# EAGLE library part ADS1299IPAG (library ADC)
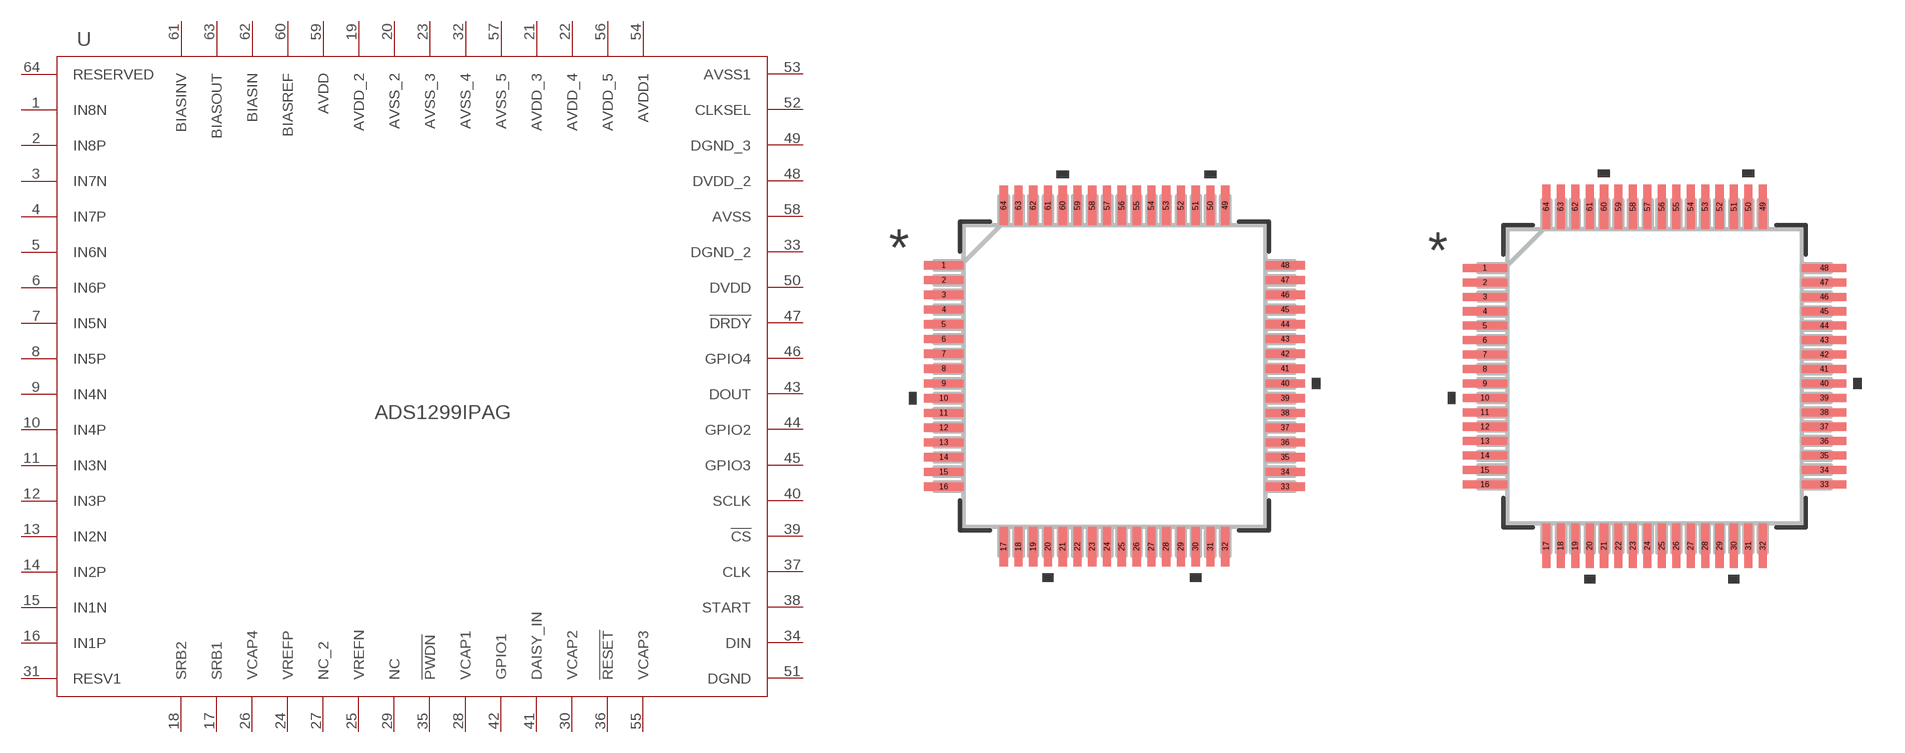
[diagram p0: symbol with the pads of PAG64_TEX; footprints PAG64_TEX, PAG64_TEX-M]

Designator prefix U

## ADS1299IPAG (COPYRIGHT: Copyright (C) 2021 Ultra Librarian. All rights reserved.; MANUFACTURER_PART_NUMBER: ADS1299IPAG; MFR_NAME: Texas Instruments)  [PAG64_TEX]
1  IN8N  in
2  IN8P  in
3  IN7N  in
4  IN7P  in
5  IN6N  in
6  IN6P  in
7  IN5N  in
8  IN5P  in
9  IN4N  in
10  IN4P  in
11  IN3N  in
12  IN3P  in
13  IN2N  in
14  IN2P  in
15  IN1N  in
16  IN1P  in
17  SRB1
18  SRB2
19  AVDD_2  pwr
20  AVSS_2  pwr
21  AVDD_3  pwr
22  AVDD_4  pwr
23  AVSS_3  pwr
24  VREFP
25  VREFN  in
26  VCAP4  out
27  NC_2  nc
28  VCAP1  pas
29  NC  nc
30  VCAP2  pas
31  RESV1  in
32  AVSS_4  pwr
33  DGND_2  pwr
34  DIN  in
35  !PWDN  pwr
36  !RESET  in
37  CLK  in
38  START  in
39  !CS  in
40  SCLK  in
41  DAISY_IN  in
42  GPIO1  nc
43  DOUT  out
44  GPIO2  nc
45  GPIO3  nc
46  GPIO4  nc
47  !DRDY  out
48  DVDD_2  pwr
49  DGND_3  pwr
50  DVDD  pwr
51  DGND  pwr
52  CLKSEL  in
53  AVSS1  pwr
54  AVDD1  pwr
55  VCAP3  pas
56  AVDD_5  pwr
57  AVSS_5  pwr
58  AVSS  pwr
59  AVDD  pwr
60  BIASREF  in
61  BIASINV
62  BIASIN  in
63  BIASOUT  out
64  RESERVED  out

## ADS1299IPAGPAG64_TEX-M (COPYRIGHT: Copyright (C) 2021 Ultra Librarian. All rights reserved.; MANUFACTURER_PART_NUMBER: ADS1299IPAG; MFR_NAME: Texas Instruments)  [PAG64_TEX-M]
Pads as for PAG64_TEX

## ADS1299IPAGPAG64_TEX-L (COPYRIGHT: Copyright (C) 2021 Ultra Librarian. All rights reserved.; MANUFACTURER_PART_NUMBER: ADS1299IPAG; MFR_NAME: Texas Instruments)  [PAG64_TEX-L]
Pads as for PAG64_TEX

## Footprint PAG64_TEX (pad centres in mm)
smd 1.341 x 0.279: 1 -5.776,3.75; 2 -5.776,3.25; 3 -5.776,2.75; 4 -5.776,2.25; 5 -5.776,1.75; 6 -5.776,1.25; 7 -5.776,0.75; 8 -5.776,0.25; 9 -5.776,-0.25; 10 -5.776,-0.75; 11 -5.776,-1.25; 12 -5.776,-1.75; 13 -5.776,-2.25; 14 -5.776,-2.75; 15 -5.776,-3.25; 16 -5.776,-3.75; 33 5.776,-3.75; 34 5.776,-3.25; 35 5.776,-2.75; 36 5.776,-2.25; 37 5.776,-1.75; 38 5.776,-1.25; 39 5.776,-0.75; 40 5.776,-0.25; 41 5.776,0.25; 42 5.776,0.75; 43 5.776,1.25; 44 5.776,1.75; 45 5.776,2.25; 46 5.776,2.75; 47 5.776,3.25; 48 5.776,3.75
smd 0.279 x 1.341: 17 -3.75,-5.776; 18 -3.25,-5.776; 19 -2.75,-5.776; 20 -2.25,-5.776; 21 -1.75,-5.776; 22 -1.25,-5.776; 23 -0.75,-5.776; 24 -0.25,-5.776; 25 0.25,-5.776; 26 0.75,-5.776; 27 1.25,-5.776; 28 1.75,-5.776; 29 2.25,-5.776; 30 2.75,-5.776; 31 3.25,-5.776; 32 3.75,-5.776; 49 3.75,5.776; 50 3.25,5.776; 51 2.75,5.776; 52 2.25,5.776; 53 1.75,5.776; 54 1.25,5.776; 55 0.75,5.776; 56 0.25,5.776; 57 -0.25,5.776; 58 -0.75,5.776; 59 -1.25,5.776; 60 -1.75,5.776; 61 -2.25,5.776; 62 -2.75,5.776; 63 -3.25,5.776; 64 -3.75,5.776

## Footprint PAG64_TEX-M (pad centres in mm)
smd 1.541 x 0.279: 1 -5.876,3.75; 2 -5.876,3.25; 3 -5.876,2.75; 4 -5.876,2.25; 5 -5.876,1.75; 6 -5.876,1.25; 7 -5.876,0.75; 8 -5.876,0.25; 9 -5.876,-0.25; 10 -5.876,-0.75; 11 -5.876,-1.25; 12 -5.876,-1.75; 13 -5.876,-2.25; 14 -5.876,-2.75; 15 -5.876,-3.25; 16 -5.876,-3.75; 33 5.876,-3.75; 34 5.876,-3.25; 35 5.876,-2.75; 36 5.876,-2.25; 37 5.876,-1.75; 38 5.876,-1.25; 39 5.876,-0.75; 40 5.876,-0.25; 41 5.876,0.25; 42 5.876,0.75; 43 5.876,1.25; 44 5.876,1.75; 45 5.876,2.25; 46 5.876,2.75; 47 5.876,3.25; 48 5.876,3.75
smd 0.279 x 1.541: 17 -3.75,-5.876; 18 -3.25,-5.876; 19 -2.75,-5.876; 20 -2.25,-5.876; 21 -1.75,-5.876; 22 -1.25,-5.876; 23 -0.75,-5.876; 24 -0.25,-5.876; 25 0.25,-5.876; 26 0.75,-5.876; 27 1.25,-5.876; 28 1.75,-5.876; 29 2.25,-5.876; 30 2.75,-5.876; 31 3.25,-5.876; 32 3.75,-5.876; 49 3.75,5.876; 50 3.25,5.876; 51 2.75,5.876; 52 2.25,5.876; 53 1.75,5.876; 54 1.25,5.876; 55 0.75,5.876; 56 0.25,5.876; 57 -0.25,5.876; 58 -0.75,5.876; 59 -1.25,5.876; 60 -1.75,5.876; 61 -2.25,5.876; 62 -2.75,5.876; 63 -3.25,5.876; 64 -3.75,5.876

## Footprint PAG64_TEX-L (pad centres in mm)
smd 1.141 x 0.229: 1 -5.676,3.75; 2 -5.676,3.25; 3 -5.676,2.75; 4 -5.676,2.25; 5 -5.676,1.75; 6 -5.676,1.25; 7 -5.676,0.75; 8 -5.676,0.25; 9 -5.676,-0.25; 10 -5.676,-0.75; 11 -5.676,-1.25; 12 -5.676,-1.75; 13 -5.676,-2.25; 14 -5.676,-2.75; 15 -5.676,-3.25; 16 -5.676,-3.75; 33 5.676,-3.75; 34 5.676,-3.25; 35 5.676,-2.75; 36 5.676,-2.25; 37 5.676,-1.75; 38 5.676,-1.25; 39 5.676,-0.75; 40 5.676,-0.25; 41 5.676,0.25; 42 5.676,0.75; 43 5.676,1.25; 44 5.676,1.75; 45 5.676,2.25; 46 5.676,2.75; 47 5.676,3.25; 48 5.676,3.75
smd 0.229 x 1.141: 17 -3.75,-5.676; 18 -3.25,-5.676; 19 -2.75,-5.676; 20 -2.25,-5.676; 21 -1.75,-5.676; 22 -1.25,-5.676; 23 -0.75,-5.676; 24 -0.25,-5.676; 25 0.25,-5.676; 26 0.75,-5.676; 27 1.25,-5.676; 28 1.75,-5.676; 29 2.25,-5.676; 30 2.75,-5.676; 31 3.25,-5.676; 32 3.75,-5.676; 49 3.75,5.676; 50 3.25,5.676; 51 2.75,5.676; 52 2.25,5.676; 53 1.75,5.676; 54 1.25,5.676; 55 0.75,5.676; 56 0.25,5.676; 57 -0.25,5.676; 58 -0.75,5.676; 59 -1.25,5.676; 60 -1.75,5.676; 61 -2.25,5.676; 62 -2.75,5.676; 63 -3.25,5.676; 64 -3.75,5.676